# EAGLE library part AM3N-*DH30 (library _hhn_aimtec_am3n)
aimtec AM3N Series: 3 W DC/DC-Converters; ±10% Input Range; DIL24-compatible AM3N-xxyyDH30: Dual output (±); 3000 V I/O-isolation Packages: DIL24-compatible, metal Note: actual pin assignment depends on output configuration and i/o-isolation voltage, see description Source: http://www.aimtec.ca (DC-DC Converters Catalogue Rev. 1.1) Technologies: xx input voltage (V) yy output voltage (V) (D) Dual output (±) (H30) 3000 V I/O-isolation voltage Author: Dipl.-Ing. FH Rainer Bayer HHN Hochschule Heilbronn (Heilbronn University), rainer.bayer@hs-heilbronn.de Ingenieurbüro ing-rb, mail@ing-rb.de
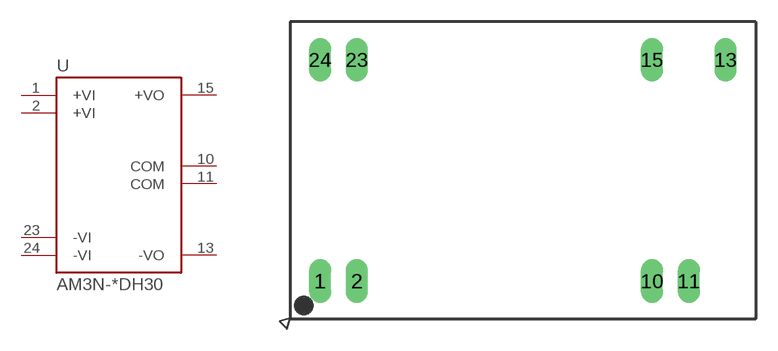
[diagram p4: symbol with the pads of AM3NDH_DIL24; footprint AM3NDH_DIL24]

Designator prefix U

## AM3N-0505DH30, AM3N-0507DH30, AM3N-0509DH30, AM3N-0512DH30, AM3N-0515DH30, AM3N-0518DH30, AM3N-0524DH30, AM3N-1205DH30, AM3N-1207DH30, AM3N-1209DH30, AM3N-1212DH30, AM3N-1215DH30, AM3N-1218DH30, AM3N-1224DH30, AM3N-2405DH30, AM3N-2407DH30, AM3N-2409DH30, AM3N-2412DH30, AM3N-2415DH30, AM3N-2418DH30, AM3N-2424DH30, AM3N-XXYYDH30  [AM3NDH_DIL24]
1  +VI  pwr
2  +VI  pwr
10  COM  sup
11  COM  sup
13  -VO  sup
15  +VO  sup
23  -VI  pwr
24  -VI  pwr

## Footprint AM3NDH_DIL24 (pad centres in mm)
aimtec 3W DC/DC-converter: DIL24, 3000 V and 5200 V I/O-isolation, DUAL output source: http://aimtec.ca; DC-DC Converters Catalogue Rev. 1.1
drill 1 long: 1 -13.97,-7.62; 2 -11.43,-7.62; 10 8.89,-7.62; 11 11.43,-7.62; 13 13.97,7.62; 15 8.89,7.62; 23 -11.43,7.62; 24 -13.97,7.62